# Altium footprint library TMC2160_BOB_V1_0.PcbLib: 6 footprints
Each footprint in its own frame and in the unit in brackets; x right, y up, seen from the top. Pads: shape width x height; smd on the part's side, far side on the other; paste and mask are expansions set on the pad; w line width, h text height; cw(c..) or ccw(c..) is an arc to the next point about the centre after c.
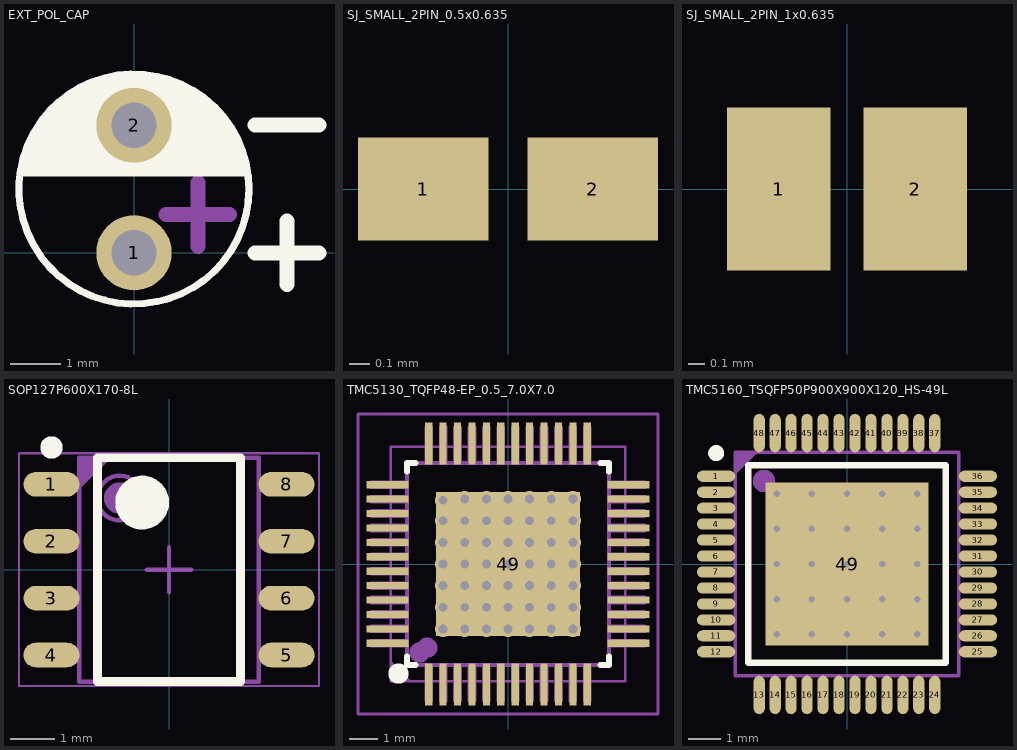
[diagram p0: the footprints below, top view; thin cyan lines are the x and y axes]

## EXT_POL_CAP [mm]
pads (2):
  round 1.5 hole 0.9: 1(0,0) 2(0,2.54)
Top Overlay:
  circle w0.14: c0,1.27 r2.29
  region: 0,1.524 -2.272,1.524 -2.249,1.732 -2.128,2.132 -1.936,2.504 -1.68,2.834 -1.368,3.113 -1.011,3.331 -0.62,3.48 -0.209,3.556 0,3.556 0.209,3.556 0.62,3.48 1.011,3.331 1.368,3.113 1.68,2.834 1.936,2.504 2.128,2.132 2.249,1.732 2.272,1.524 0,1.524 0,1.651 0.087,1.655 0.258,1.689 0.419,1.756 0.564,1.853 0.687,1.976 0.784,2.121 0.851,2.282 0.885,2.453 0.889,2.54 0.885,2.627 0.851,2.798 0.784,2.959 0.687,3.104 0.564,3.227 0.419,3.324 0.258,3.391 0.087,3.425 0,3.429 -0.087,3.425 -0.258,3.391 -0.419,3.324 -0.564,3.227 -0.687,3.104 -0.784,2.959 -0.851,2.798 -0.885,2.627 -0.889,2.54 -0.885,2.453 -0.851,2.282 -0.784,2.121 -0.687,1.976 -0.564,1.853 -0.419,1.756 -0.258,1.689 -0.087,1.655 0,1.651
  pour cut-out: 0.889,2.54 0.889,2.628 0.855,2.799 0.788,2.961 0.691,3.107 0.567,3.231 0.421,3.328 0.259,3.395 0.088,3.429 0,3.429 -0.088,3.429 -0.259,3.395 -0.421,3.328 -0.567,3.231 -0.691,3.107 -0.788,2.961 -0.855,2.799 -0.889,2.628 -0.889,2.54 -0.889,2.452 -0.855,2.281 -0.788,2.119 -0.691,1.973 -0.567,1.849 -0.421,1.752 -0.259,1.685 -0.088,1.651 0,1.651 0.088,1.651 0.259,1.685 0.421,1.752 0.567,1.849 0.691,1.973 0.788,2.119 0.855,2.281 0.889,2.452
  lines w0.3: 2.413,0 3.683,0 ; 2.413,2.54 3.683,2.54 ; 3.048,-0.635 3.048,0.635
TopAsm:
  circle w0.14: c0,1.27 r2.29
  region: -2.254,1.651 2.258,1.651 2.224,1.849 2.089,2.228 1.89,2.577 1.633,2.886 1.326,3.146 0.978,3.348 0.6,3.486 0.205,3.556 0.004,3.556 -0.198,3.556 -0.594,3.486 -0.972,3.348 -1.32,3.146 -1.627,2.887 -1.885,2.578 -2.085,2.228 -2.22,1.849
  lines w0.3: 0.635,0.762 1.905,0.762 ; 1.27,0.127 1.27,1.397
  text ".Designator" at -1.905,0.762 h1.27

## SJ_SMALL_2PIN_0.5x0.635 [mm]
pads (2):
  rect 0.635x0.5 smd: 1(-0.413,0) 2(0.413,0)

## SJ_SMALL_2PIN_1x0.635 [mm]
pads (2):
  rect 0.635x1 smd: 1(-0.419,0) 2(0.419,0)

## SOP127P600X170-8L [mm] "SOP, 8-Leads, Body 4,90x3,90mm, Pitch 1,27mm, IPC High Density"
height 1.7
pads (8):
  oval 1.25x0.55 smd: 1(-2.625,1.905) 2(-2.625,0.635) 3(-2.625,-0.635) 4(-2.625,-1.905) 5(2.625,-1.905) 6(2.625,-0.635) 7(2.625,0.635) 8(2.625,1.905)
Top Overlay:
  circle w0.6: c-0.6,1.5 r0.3
  circle w0.25: c-2.625,2.73 r0.125
  lines w0.2: -1.6,-2.5 1.6,-2.5 1.6,2.5 -1.6,2.5 -1.6,-2.5
Mechanical 13:
  circle w0.1: c-1.1,1.6 r0.5
  lines w0.1: -2,-2.5 -2,2.5 2,2.5 2,-2.5 -2,-2.5
Mechanical 15:
  lines w0.05: -3.35,-2.6 3.35,-2.6 3.35,2.6 -3.35,2.6 -3.35,-2.6
  lines w0.1: -0.5,0 0.5,0 ; 0,-0.5 0,0.5
TopAsm:
  circle w0.5: c-1.1,1.6 r0.1
  region: -1.294,2.5 -2,1.794 -2,2.5
  lines w0.1: -2,-2.5 2,-2.5 2,2.5 -2,2.5 -2,-2.5
  text ".Designator" at 0.635,-1.905 h1.27
3D body "SOP127P600X170-8L.step": height 1.7, standoff 0, extent -3,-2.5 3,2.5

## TMC5130_TQFP48-EP_0.5_7.0X7.0 [mm]
pads (49):
  rect 0.25x1.45 smd: 1(-2.75,-4.175) 2(-2.25,-4.175) 3(-1.75,-4.175) 4(-1.25,-4.175) 5(-0.75,-4.175) 6(-0.25,-4.175) 7(0.25,-4.175) 8(0.75,-4.175) 9(1.25,-4.175) 10(1.75,-4.175) 11(2.25,-4.175) 12(2.75,-4.175) 25(2.75,4.175) 26(2.25,4.175) 27(1.75,4.175) 28(1.25,4.175) 29(0.75,4.175) 30(0.25,4.175) 31(-0.25,4.175) 32(-0.75,4.175) 33(-1.25,4.175) 34(-1.75,4.175) 35(-2.25,4.175) 36(-2.75,4.175)
  rect 1.45x0.25 smd: 13(4.175,-2.75) 14(4.175,-2.25) 15(4.175,-1.75) 16(4.175,-1.25) 17(4.175,-0.75) 18(4.175,-0.25) 19(4.175,0.25) 20(4.175,0.75) 21(4.175,1.25) 22(4.175,1.75) 23(4.175,2.25) 24(4.175,2.75) 37(-4.175,2.75) 38(-4.175,2.25) 39(-4.175,1.75) 40(-4.175,1.25) 41(-4.175,0.75) 42(-4.175,0.25) 43(-4.175,-0.25) 44(-4.175,-0.75) 45(-4.175,-1.25) 46(-4.175,-1.75) 47(-4.175,-2.25) 48(-4.175,-2.75)
  rrect0% 5x5 smd paste-254: 49(0,0)
via 0,-1.5 diameter 0.559 hole 0.305
via -0.75,-1.5 diameter 0.559 hole 0.305
via -1.5,-1.5 diameter 0.559 hole 0.305
via -2.25,-1.5 diameter 0.559 hole 0.305
via 0.75,-1.5 diameter 0.559 hole 0.305
via 1.5,-1.5 diameter 0.559 hole 0.305
via 2.25,-1.5 diameter 0.559 hole 0.305
via 0,-0.75 diameter 0.559 hole 0.305
via -0.75,-0.75 diameter 0.559 hole 0.305
via -1.5,-0.75 diameter 0.559 hole 0.305
via -2.25,-0.75 diameter 0.559 hole 0.305
via 0.75,-0.75 diameter 0.559 hole 0.305
via 1.5,-0.75 diameter 0.559 hole 0.305
via 2.25,-0.75 diameter 0.559 hole 0.305
via 0,2.25 diameter 0.559 hole 0.305
via -0.75,2.25 diameter 0.559 hole 0.305
via -1.5,2.25 diameter 0.559 hole 0.305
via 0.75,2.25 diameter 0.559 hole 0.305
via 1.5,2.25 diameter 0.559 hole 0.305
via 2.25,2.25 diameter 0.559 hole 0.305
via 0,1.5 diameter 0.559 hole 0.305
via -0.75,1.5 diameter 0.559 hole 0.305
via -1.5,1.5 diameter 0.559 hole 0.305
via -2.25,1.5 diameter 0.559 hole 0.305
via 0.75,1.5 diameter 0.559 hole 0.305
via 1.5,1.5 diameter 0.559 hole 0.305
via 2.25,1.5 diameter 0.559 hole 0.305
via 0,0.75 diameter 0.559 hole 0.305
via -0.75,0.75 diameter 0.559 hole 0.305
via -1.5,0.75 diameter 0.559 hole 0.305
via -2.25,0.75 diameter 0.559 hole 0.305
via 0.75,0.75 diameter 0.559 hole 0.305
via 1.5,0.75 diameter 0.559 hole 0.305
via 2.25,0.75 diameter 0.559 hole 0.305
via 2.25,0 diameter 0.559 hole 0.305
via 1.5,0 diameter 0.559 hole 0.305
via 0.75,0 diameter 0.559 hole 0.305
via -2.25,0 diameter 0.559 hole 0.305
via -1.5,0 diameter 0.559 hole 0.305
via -0.75,0 diameter 0.559 hole 0.305
via 0,0 diameter 0.559 hole 0.305
via 0,-2.25 diameter 0.559 hole 0.305
via 0.75,-2.25 diameter 0.559 hole 0.305
via 2.25,-2.25 diameter 0.559 hole 0.305
via 1.5,-2.25 diameter 0.559 hole 0.305
via -1.5,-2.25 diameter 0.559 hole 0.305
via -0.75,-2.25 diameter 0.559 hole 0.305
via -2.25,-2.25 diameter 0.559 hole 0.305
via -2.256,2.207 diameter 0.559 hole 0.305
Top Overlay:
  circle w0.5: c-3.8,-3.8 r0.1
  lines w0.2: -3.5,-3.2 -3.5,-3.5 -3.2,-3.5 ; -3.5,3.2 -3.5,3.5 -3.2,3.5 ; 3.2,-3.5 3.5,-3.5 3.5,-3.2 ; 3.2,3.5 3.5,3.5 3.5,3.2
Top Paste:
  region: -2.4,2.4 -0.4,2.4 -0.4,0.4 -2.4,0.4
  region: -2.4,-0.4 -0.4,-0.4 -0.4,-2.4 -2.4,-2.4
  region: 0.4,-0.4 2.4,-0.4 2.4,-2.4 0.4,-2.4
  region: 0.4,2.4 2.4,2.4 2.4,0.4 0.4,0.4
Bottom Solder:
  region: -2.54,2.54 -2.54,-2.54 2.54,-2.54 2.54,2.54
Mechanical 13:
  drawing of 197 lines, arcs and shapes, not listed
Mechanical 15:
  lines w0.1: -5.2,-5.2 5.2,-5.2 5.2,5.2 -5.2,5.2 -5.2,-5.2
TopAsm:
  circle w0.5: c-3.064,-3.064 r0.1
  region: -4.064,-3.358 -3.358,-4.064 -4.064,-4.064
  lines w0.076: -4.064,-4.064 4.064,-4.064 4.064,4.064 -4.064,4.064 -4.064,-4.064
  text ".Designator" at -3.302,-0.508 h1.27
3D body: height 1, standoff 0.05, extent -3.5,-3.5 3.5,3.5

## TMC5160_TSQFP50P900X900X120_HS-49L [mm] "TSQFP, 48-Leads, Body 7,00x7,00mm, Pitch 0,50mm, Thermal Pad 5,10x5,10mm, IPC High Density"
height 1.2
pads (49):
  oval 1.2x0.35 smd mask+0.102: 1(-4.1,2.75) 2(-4.1,2.25) 3(-4.1,1.75) 4(-4.1,1.25) 5(-4.1,0.75) 6(-4.1,0.25) 7(-4.1,-0.25) 8(-4.1,-0.75) 9(-4.1,-1.25) 10(-4.1,-1.75) 11(-4.1,-2.25) 12(-4.1,-2.75) 25(4.1,-2.75) 26(4.1,-2.25) 27(4.1,-1.75) 28(4.1,-1.25) 29(4.1,-0.75) 30(4.1,-0.25) 31(4.1,0.25) 32(4.1,0.75) 33(4.1,1.25) 34(4.1,1.75) 35(4.1,2.25) 36(4.1,2.75)
  oval 0.35x1.2 smd mask+0.102: 13(-2.75,-4.1) 14(-2.25,-4.1) 15(-1.75,-4.1) 16(-1.25,-4.1) 17(-0.75,-4.1) 18(-0.25,-4.1) 19(0.25,-4.1) 20(0.75,-4.1) 21(1.25,-4.1) 22(1.75,-4.1) 23(2.25,-4.1) 24(2.75,-4.1) 37(2.75,4.1) 38(2.25,4.1) 39(1.75,4.1) 40(1.25,4.1) 41(0.75,4.1) 42(0.25,4.1) 43(-0.25,4.1) 44(-0.75,4.1) 45(-1.25,4.1) 46(-1.75,4.1) 47(-2.25,4.1) 48(-2.75,4.1)
  rect 5.1x5.1 smd: 49(0,0)
via -2.2,2.2 diameter 0.5 hole 0.2
via -1.1,2.2 diameter 0.5 hole 0.2
via 0,2.2 diameter 0.5 hole 0.2
via 1.1,2.2 diameter 0.5 hole 0.2
via 2.2,2.2 diameter 0.5 hole 0.2
via -2.2,1.1 diameter 0.5 hole 0.2
via -1.1,1.1 diameter 0.5 hole 0.2
via 0,1.1 diameter 0.5 hole 0.2
via 1.1,1.1 diameter 0.5 hole 0.2
via 2.2,1.1 diameter 0.5 hole 0.2
via -2.2,0 diameter 0.5 hole 0.2
via -1.1,0 diameter 0.5 hole 0.2
via 0,0 diameter 0.5 hole 0.2
via 1.1,0 diameter 0.5 hole 0.2
via 2.2,0 diameter 0.5 hole 0.2
via -2.2,-1.1 diameter 0.5 hole 0.2
via -1.1,-1.1 diameter 0.5 hole 0.2
via 0,-1.1 diameter 0.5 hole 0.2
via 1.1,-1.1 diameter 0.5 hole 0.2
via 2.2,-1.1 diameter 0.5 hole 0.2
via -2.2,-2.2 diameter 0.5 hole 0.2
via -1.1,-2.2 diameter 0.5 hole 0.2
via 0,-2.2 diameter 0.5 hole 0.2
via 1.1,-2.2 diameter 0.5 hole 0.2
via 2.2,-2.2 diameter 0.5 hole 0.2
Top Overlay:
  circle w0.25: c-4.1,3.475 r0.125
  lines w0.2: -3.1,-3.1 -3.1,3.1 3.1,3.1 3.1,-3.1 -3.1,-3.1
Bottom Solder:
  region: -2.54,2.54 -2.54,-2.54 2.54,-2.54 2.54,2.54
TopAsm:
  circle w0.5: c-2.6,2.6 r0.1
  region: -2.794,3.5 -3.5,2.794 -3.5,3.5
  lines w0.1: -3.5,-3.5 3.5,-3.5 3.5,3.5 -3.5,3.5 -3.5,-3.5
  text ".Designator" at -2.413,-0.381 h1.27
3D body "TSQFP50P900X900X120_HS-49L.step": height 1.2, standoff 0, extent -4.5,-4.5 4.5,4.5